# Altium integrated library Altera Cyclone IV E.IntLib: 141 symbols (part 25 of 33)

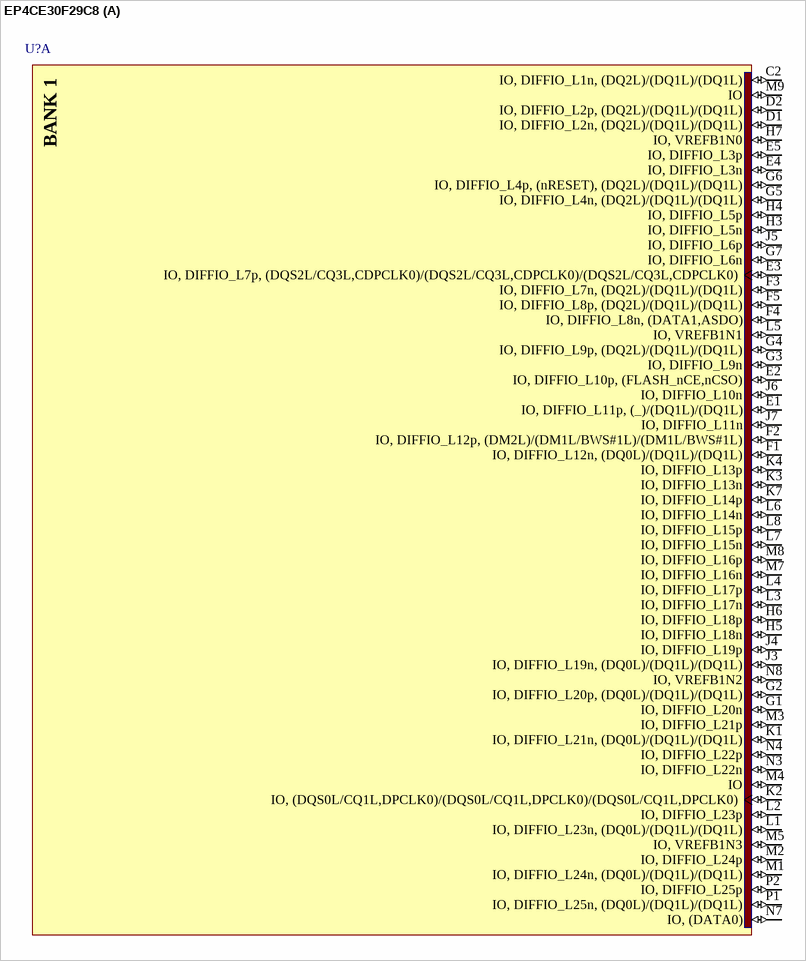
[diagram p128: symbol EP4CE30F29C8]

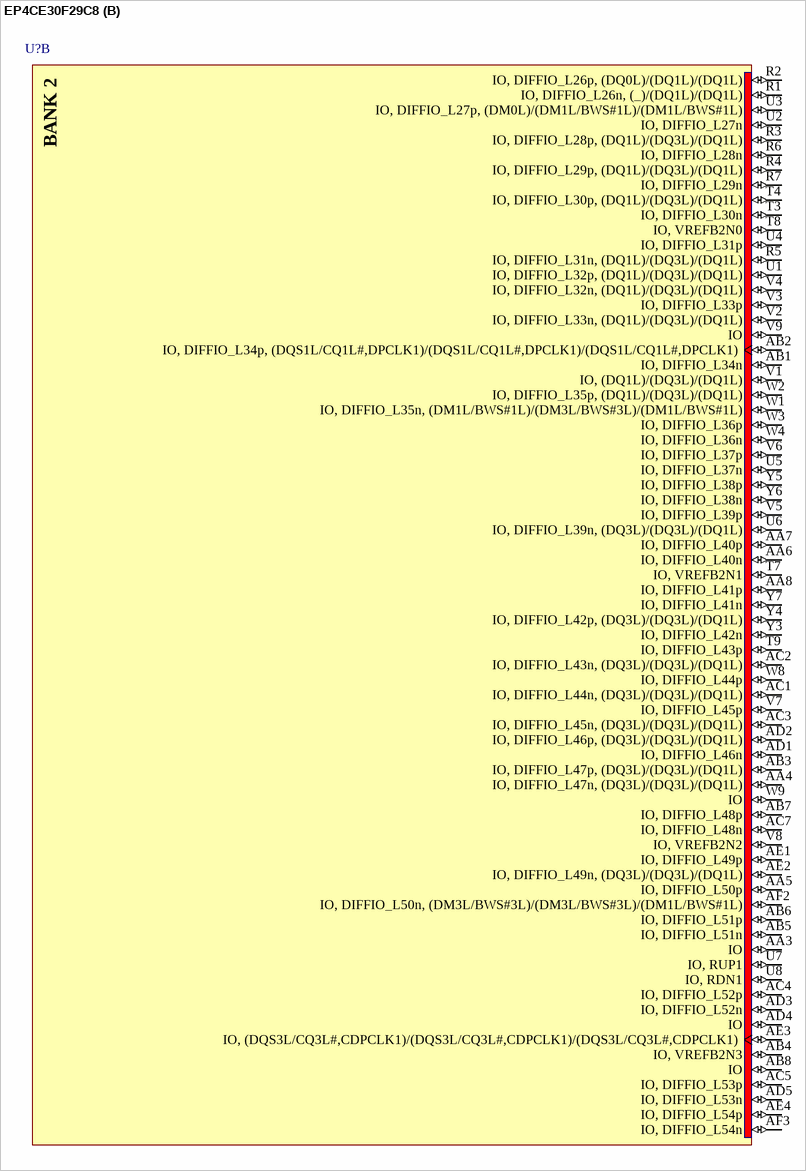
[diagram p129: symbol EP4CE30F29C8]

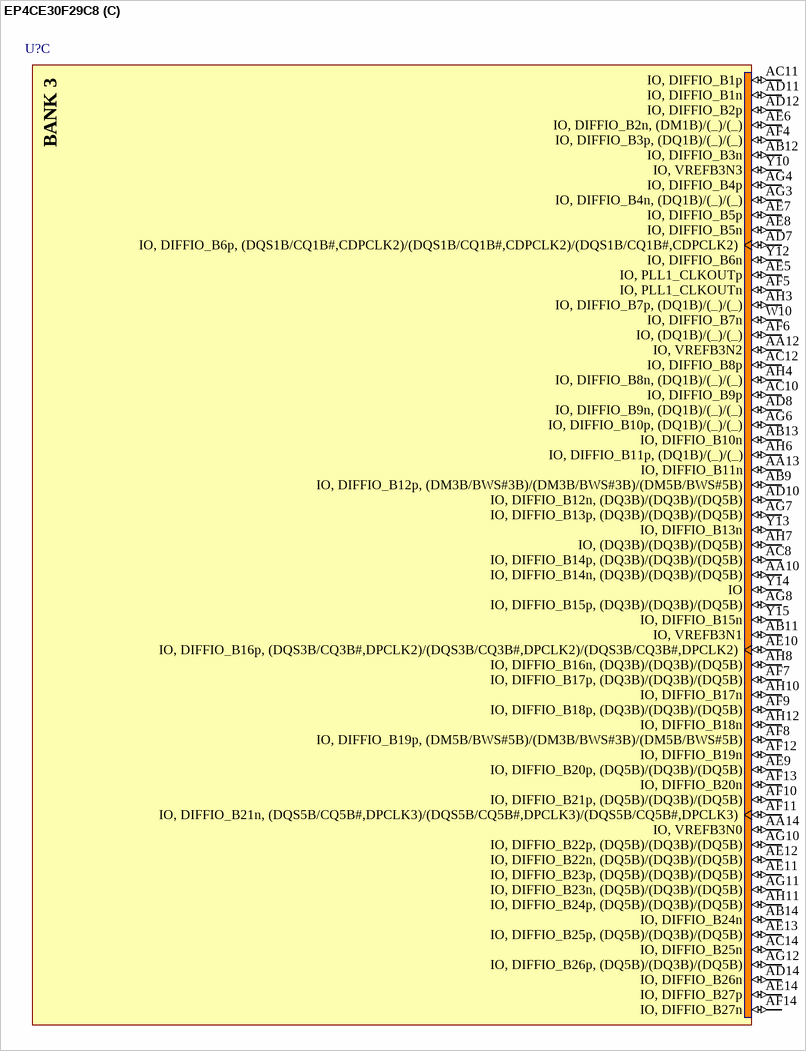
[diagram p130: symbol EP4CE30F29C8]

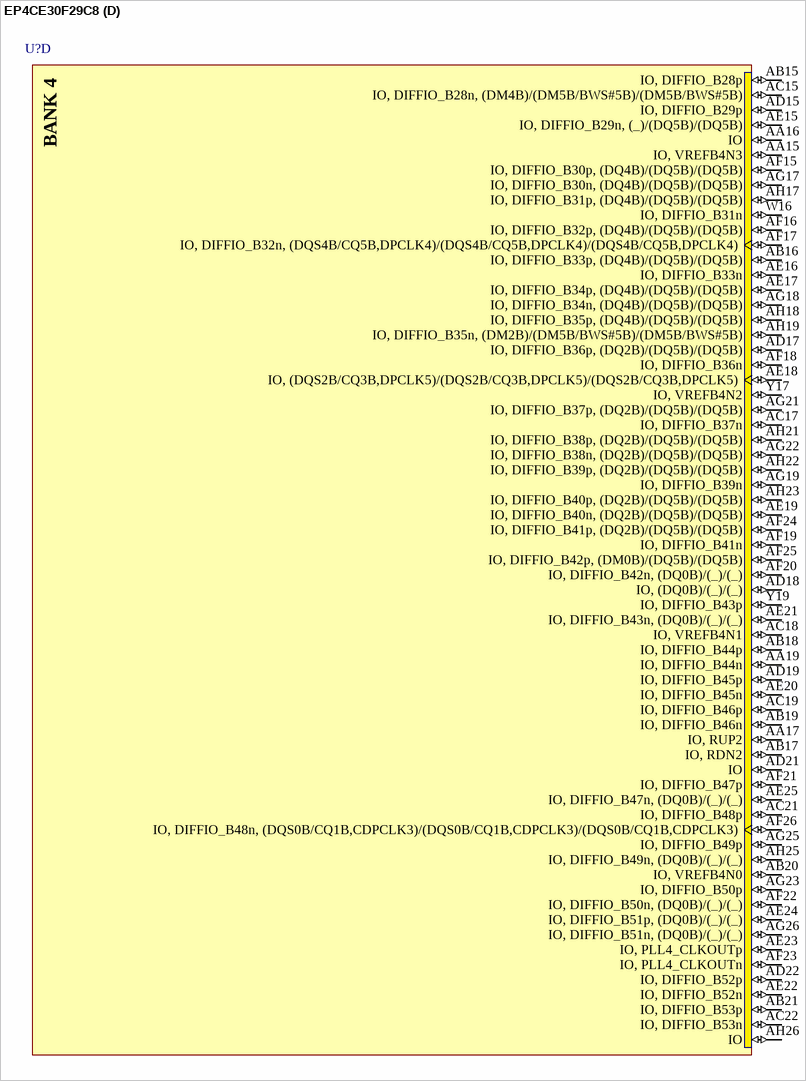
[diagram p131: symbol EP4CE30F29C8]

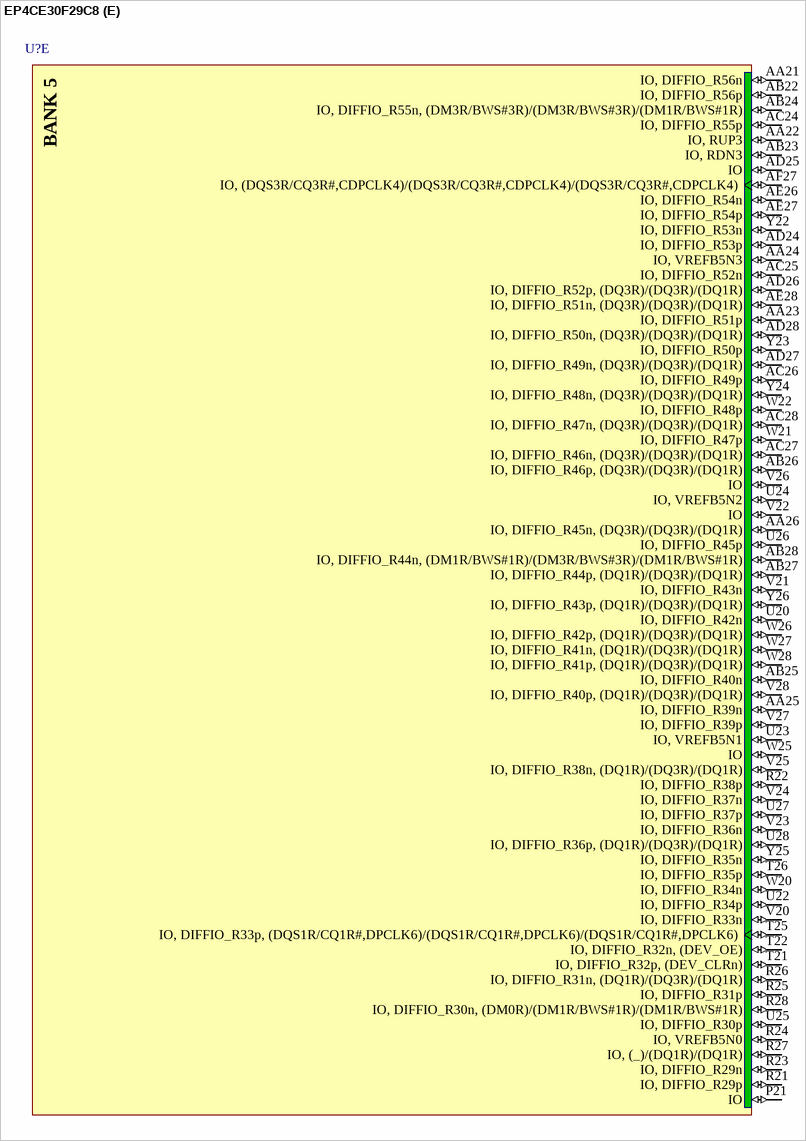
[diagram p132: symbol EP4CE30F29C8]

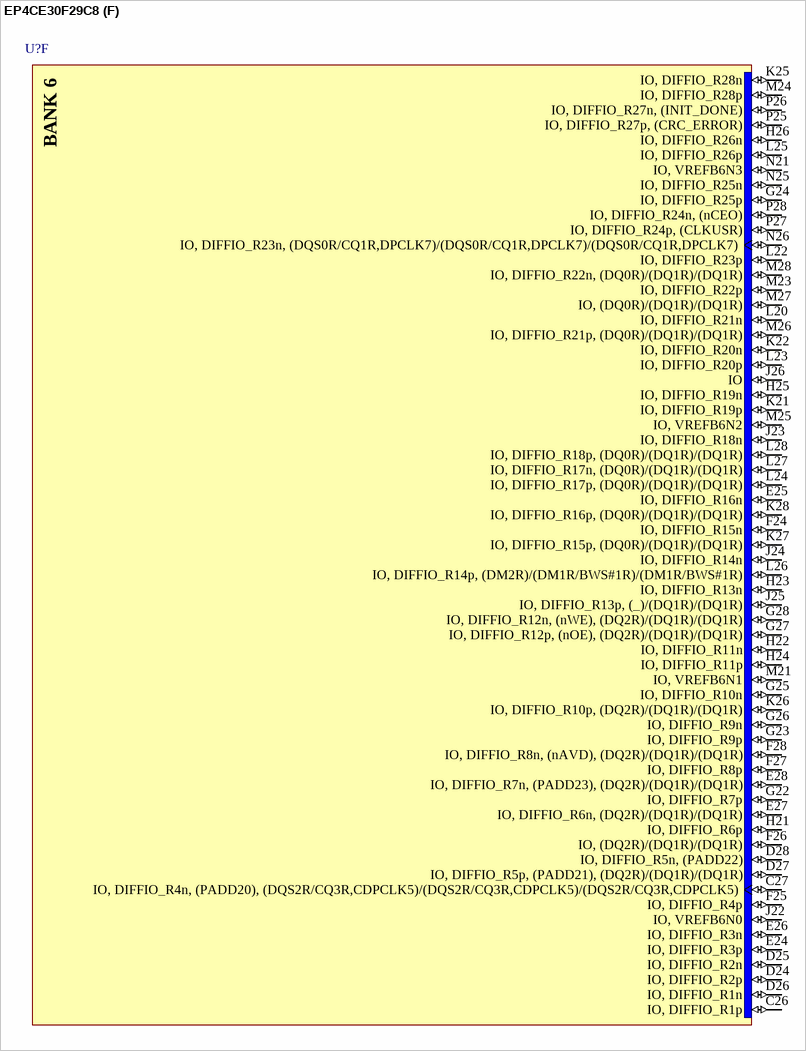
[diagram p133: symbol EP4CE30F29C8]

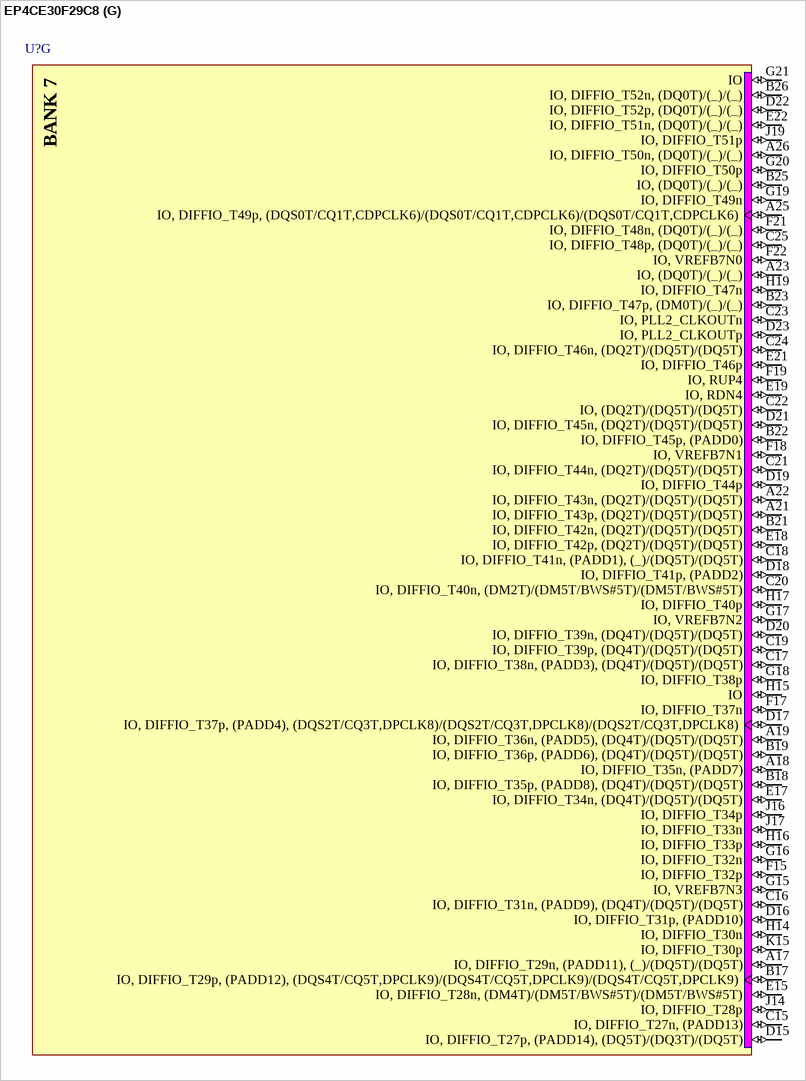
[diagram p134: symbol EP4CE30F29C8]

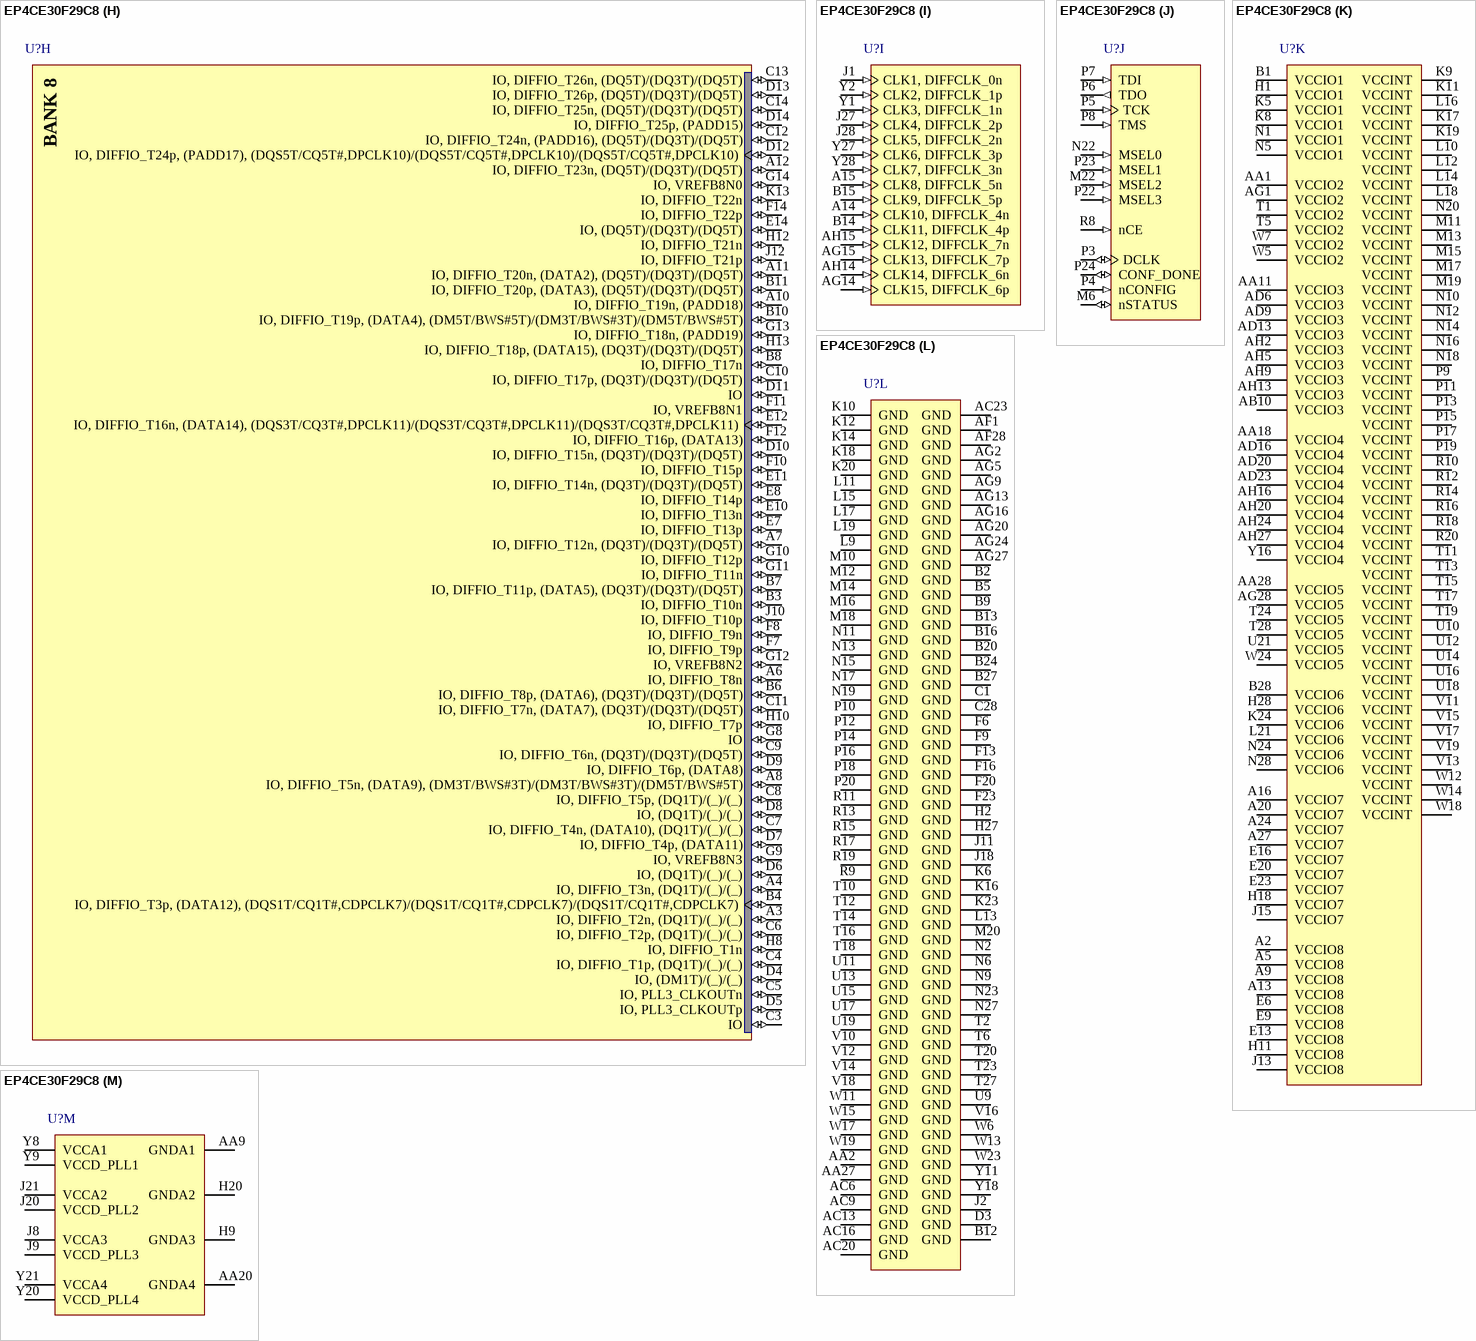
[diagram p135: symbol EP4CE30F29C8]